# Altium schematic symbol library ESP_32_devolpment_board_schematic_lib.SchLib: 1 symbol
Pins are listed as number, name and electrical type; pins without a type are passive.

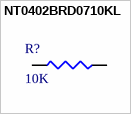
[diagram p0: symbol NT0402BRD0710KL]

## NT0402BRD0710KL
designator R?, comment 10K
RES THIN FILM 0.10% 1/20W 10K; Manufacturer: Yageo; Manufacturer Part Number: NT0402BRD0710KL; Description: Resistor, 10K, Thin Film, 0402 Rohs Compliant: Yes; Supplier: Digikey; Supplier Part Number: 13-NT0402BRD0710KLDKR-ND; Stock: 10000; Pricing: 1=0.59, 10=0.422, 50=0.323, 100=0.2858, 500=0.21232, 1000=0.18592, 5000=0.17793 (USD); JLC Part Number: C190095
pins: 1, 2